# EAGLE library part LT1933* (library linear-technology-2)
Step-Down Switching Regulator; 600mA, 500kHz
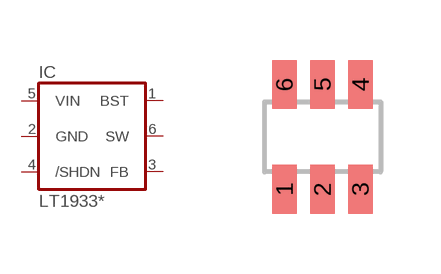
[diagram p24: symbol with the pads of TSOT23-6; footprint TSOT23-6]

Designator prefix IC

## LT1933ES6, LT1933IS6  [TSOT23-6]
1  BST  pas
2  GND  pwr
3  FB  pas
4  /SHDN  in
5  VIN  pas
6  SW  pas

## Footprint TSOT23-6 (pad centres in mm)
smd 0.622 x 1.22: 1 -0.95,-1.31; 2 0,-1.31; 3 0.95,-1.31; 4 0.95,1.31; 5 0,1.31; 6 -0.95,1.31